# Altium footprint library Capacitors.PcbLib: 62 footprints (part 2 of 4)
Each footprint in its own frame and in the unit in brackets; x right, y up, seen from the top. Pads: shape width x height; smd on the part's side, far side on the other; paste and mask are expansions set on the pad; w line width, h text height; cw(c..) or ccw(c..) is an arc to the next point about the centre after c.
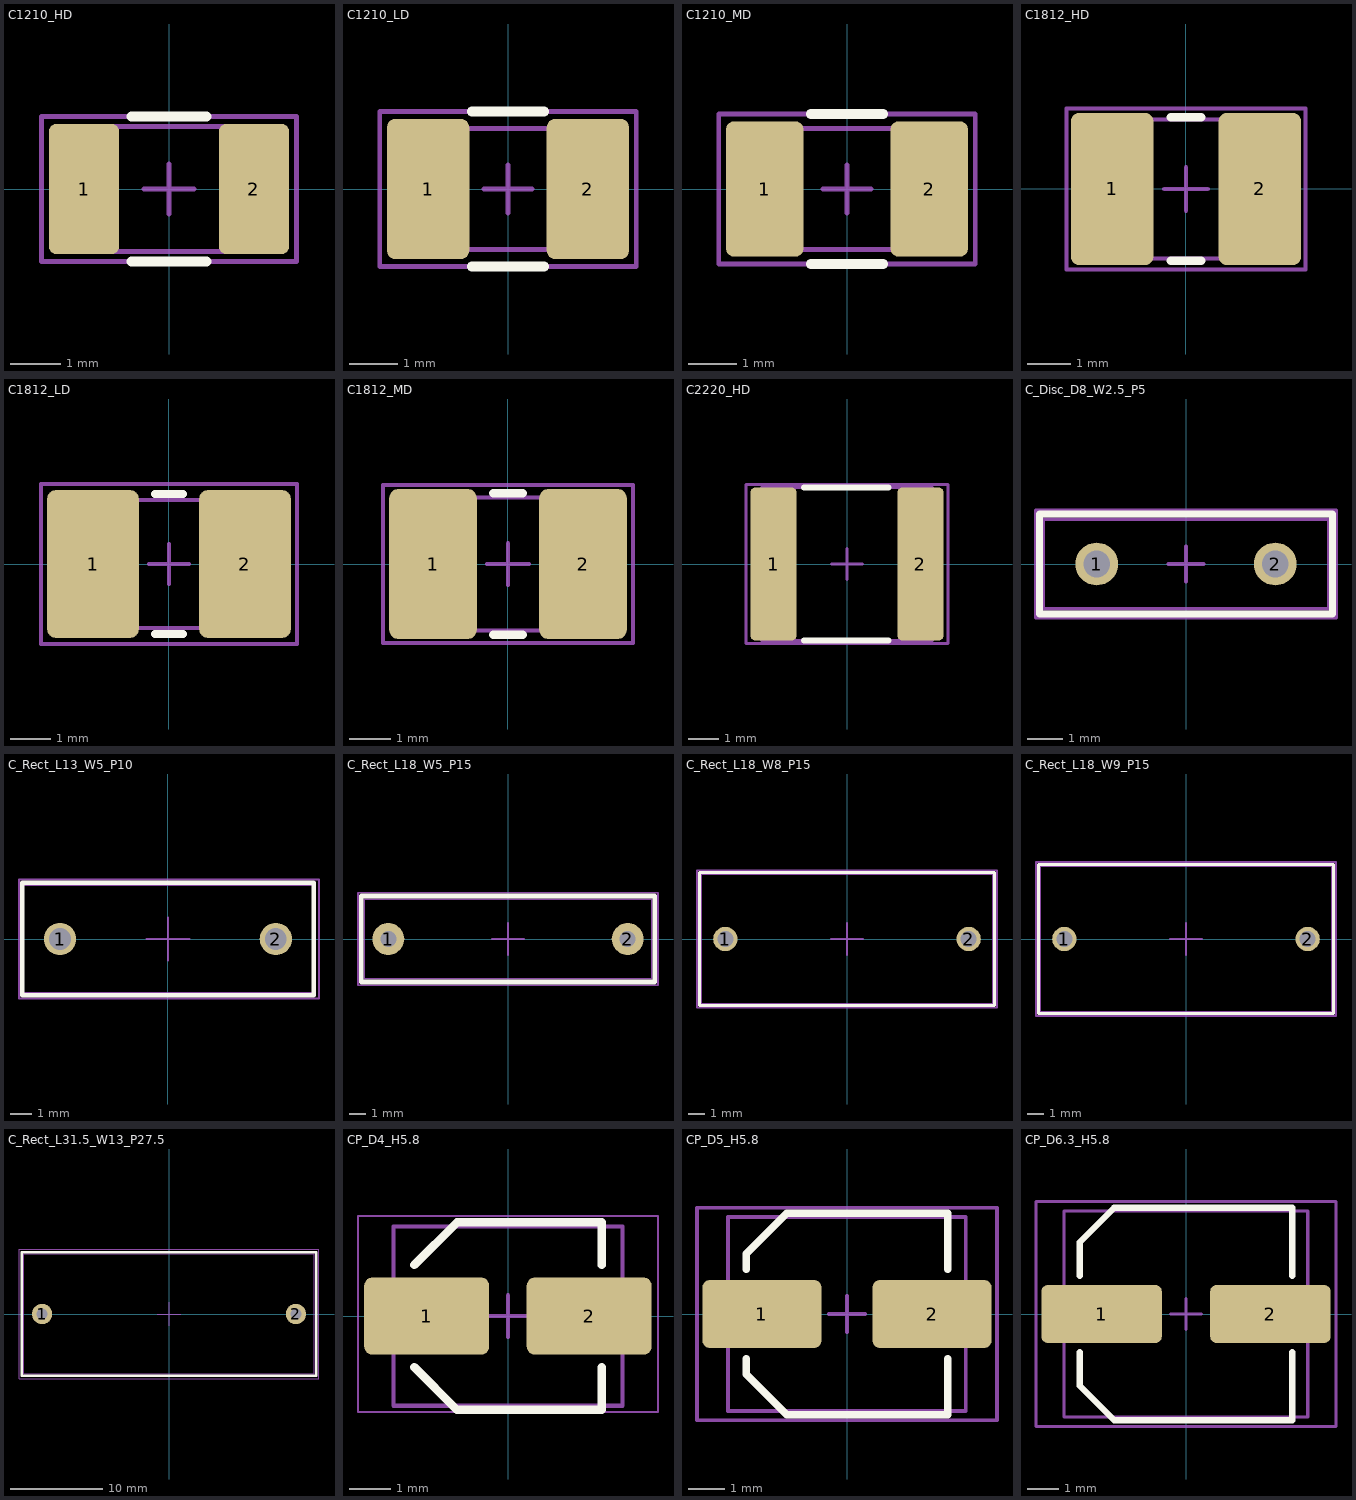
[diagram p1: the footprints below, top view; thin cyan lines are the x and y axes]

## C1210_HD [mm] "Chip Capacitor, 2-Leads, Body 3.2x2.6mm, IPC High Density"
pads (2):
  rrect20% 1.4x2.6 smd: 1(-1.7,0) 2(1.7,0)
Top Overlay:
  lines w0.2: -0.75,-1.45 0.75,-1.45 ; -0.75,1.45 0.75,1.45
Mechanical 1:
  lines w0.1: -1.6,-1.25 1.6,-1.25 1.6,1.25 -1.6,1.25 -1.6,-1.25
Mechanical 15:
  lines w0.1: -0.5,0 0.5,0 ; 0,-0.5 0,0.5 ; -2.55,-1.45 -2.55,1.45 2.55,1.45 2.55,-1.45 -2.55,-1.45
3D body "C_1210_3225Metric.step": height 2.5, standoff 0, extent -1.6,-1.25 1.6,1.25

## C1210_LD [mm] "Chip Capacitor, 2-Leads, Body 3.2x2.6mm, IPC Low Density"
pads (2):
  rrect20% 1.7x2.9 smd: 1(-1.65,0) 2(1.65,0)
Top Overlay:
  lines w0.2: -0.75,-1.6 0.75,-1.6 ; -0.75,1.6 0.75,1.6
Mechanical 1:
  lines w0.1: -1.6,-1.25 -1.6,1.25 1.6,1.25 1.6,-1.25 -1.6,-1.25
Mechanical 15:
  lines w0.1: -0.5,0 0.5,0 ; 0,-0.5 0,0.5 ; -2.65,-1.6 2.65,-1.6 2.65,1.6 -2.65,1.6 -2.65,-1.6
3D body "C_1210_3225Metric.step": height 2.5, standoff 0, extent -1.6,-1.25 1.6,1.25

## C1210_MD [mm] "Chip Capacitor, 2-Leads, Body 3.2x2.6mm, IPC Medium Density"
pads (2):
  rrect20% 1.6x2.8 smd: 1(-1.7,0) 2(1.7,0)
Top Overlay:
  lines w0.2: -0.75,-1.55 0.75,-1.55 ; -0.75,1.55 0.75,1.55
Mechanical 1:
  lines w0.1: -1.6,-1.25 -1.6,1.25 1.6,1.25 1.6,-1.25 -1.6,-1.25
Mechanical 15:
  lines w0.1: -0.5,0 0.5,0 ; 0,-0.5 0,0.5 ; -2.65,-1.55 2.65,-1.55 2.65,1.55 -2.65,1.55 -2.65,-1.55
3D body "C_1210_3225Metric.step": height 2.5, standoff 0, extent -1.6,-1.25 1.6,1.25

## C1812_HD [mm] "Chip Capacitor, 2-Leads, Body 4.5x3.2mm, IPC High Density"
height 4
pads (2):
  rrect20% 1.9x3.5 smd: 1(-1.7,0) 2(1.7,0)
Top Overlay:
  lines w0.2: -0.35,-1.65 0.35,-1.65 ; -0.35,1.65 0.35,1.65
Mechanical 1:
  lines w0.1: -2.25,-1.6 2.25,-1.6 2.25,1.6 -2.25,1.6 -2.25,-1.6
Mechanical 15:
  lines w0.1: -0.5,0 0.5,0 ; 0,-0.5 0,0.5 ; -2.75,-1.85 2.75,-1.85 2.75,1.85 -2.75,1.85 -2.75,-1.85
3D body "C_1812_4532Metric.step": height 2.5, standoff 0, extent -2.25,-1.6 2.25,1.6

## C1812_LD [mm] "Chip Capacitor, 2-Leads, Body 4.5x3.2mm, IPC Low Density"
height 4
pads (2):
  rrect20% 2.3x3.7 smd: 1(-1.9,0) 2(1.9,0)
Top Overlay:
  lines w0.2: -0.35,-1.75 0.35,-1.75 ; -0.35,1.75 0.35,1.75
Mechanical 1:
  lines w0.1: -2.25,-1.6 2.25,-1.6 2.25,1.6 -2.25,1.6 -2.25,-1.6
Mechanical 15:
  lines w0.1: -0.5,0 0.5,0 ; 0,-0.5 0,0.5 ; -3.2,-2 -3.2,2 3.2,2 3.2,-2 -3.2,-2
3D body "C_1812_4532Metric.step": height 2.5, standoff 0, extent -2.25,-1.6 2.25,1.6

## C1812_MD [mm] "Chip Capacitor, 2-Leads, Body 4.5x3.2mm, IPC Medium Density"
height 4
pads (2):
  rrect20% 2.1x3.6 smd: 1(-1.8,0) 2(1.8,0)
Top Overlay:
  lines w0.2: -0.35,-1.7 0.35,-1.7 ; -0.35,1.7 0.35,1.7
Mechanical 1:
  lines w0.1: -2.25,-1.6 2.25,-1.6 2.25,1.6 -2.25,1.6 -2.25,-1.6
Mechanical 15:
  lines w0.1: -0.5,0 0.5,0 ; 0,-0.5 0,0.5 ; -3,-1.9 3,-1.9 3,1.9 -3,1.9 -3,-1.9
3D body "C_1812_4532Metric.step": height 2.5, standoff 0, extent -2.25,-1.6 2.25,1.6

## C2220_HD [mm]
pads (2):
  rrect20% 1.5x5 smd: 1(-2.4,0) 2(2.4,0)
Top Overlay:
  lines w0.2: -1.4,-2.5 1.35,-2.5 ; -1.4,2.5 1.35,2.5
Mechanical 1:
  lines w0.1: -2.8,-2.5 -2.8,2.5 2.8,2.5 2.8,-2.5 -2.8,-2.5
Mechanical 15:
  lines w0.1: -0.5,0 0.5,0 ; 0,-0.5 0,0.5 ; -3.3,-2.6 3.3,-2.6 3.3,2.6 -3.3,2.6 -3.3,-2.6
3D body "C_2220_5650Metric.step": height 2.9, standoff 0, extent -2.8,-2.5 2.8,2.5

## C_Disc_D8_W2.5_P5 [mm]
pads (2):
  round 1.2 hole 0.75: 1(-2.5,0) 2(2.5,0)
Top Overlay:
  lines w0.2: -4.1,-1.4 -4.1,1.4 4.1,1.4 4.1,-1.4 -4.1,-1.4
Mechanical 1:
  lines w0.1: -4,-1.25 -4,1.25 3.999,1.25 3.999,-1.25 -4,-1.25
Mechanical 15:
  lines w0.1: -0.5,0 0.5,0 ; 0,-0.5 0,0.5 ; -4.2,-1.5 -4.2,1.5 4.2,1.5 4.2,-1.5 -4.2,-1.5
3D body "C_Disc_D8.0mm_W2.5mm_P5.00mm.step": height 8.1, standoff -2, extent -4,-1.25 3.999,1.25

## C_Rect_L13_W5_P10 [mm]
pads (2):
  round 1.5 hole 1 unplated: 1(-5,0) 2(5,0)
Top Overlay:
  lines w0.2: -6.75,-2.6 -6.75,2.6 6.75,2.6 6.75,-2.6 -6.75,-2.6
Mechanical 1:
  lines w0.1: -6.75,-2.5 6.75,-2.5 6.75,2.5 -6.75,2.5 -6.75,-2.5
Mechanical 15:
  lines w0.1: -1,0 1,0 ; 0,-1 0,1 ; -6.9,-2.75 -6.9,2.75 7,2.75 7,-2.75 -6.9,-2.75
3D body "C_Rect_L13.5mm_W5.0mm_P10.00mm_FKS3_FKP3_MKS4.step": height 10.1, standoff -1.8, extent -6.75,-2.5 6.75,2.5

## C_Rect_L18_W5_P15 [mm]
pads (2):
  round 2 hole 1: 1(-7.5,0) 2(7.5,0)
Top Overlay:
  lines w0.3: -9.2,-2.7 -9.2,2.7 9.2,2.7 9.2,-2.7 -9.2,-2.7
Mechanical 1:
  lines w0.1: -9,-2.5 -9,2.5 9,2.5 9,-2.5 -9,-2.5
Mechanical 15:
  lines w0.1: -1,0 1,0 ; 0,-1 0,1 ; -9.4,-2.9 -9.4,2.9 9.4,2.9 9.4,-2.9 -9.4,-2.9
3D body "C_Rect_L18.0mm_W5.0mm_P15.00mm_FKS3_FKP3.step": height 15.1, standoff -1.8, extent -9,-2.5 9,2.5

## C_Rect_L18_W8_P15 [mm]
pads (2):
  round 1.5 hole 1 unplated: 1(-7.5,0) 2(7.5,0)
Top Overlay:
  lines w0.2: -9.1,-4.1 -9.1,4.1 9.1,4.1 9.1,-4.1 -9.1,-4.1
Mechanical 1:
  lines w0.1: -9,-4 9,-4 ; -9,-4 -9,-4 ; -9,-4 -9,4 9,4 9,-4 ; 9,-4 9,-4
Mechanical 15:
  lines w0.1: -1,0 1,0 ; 0,-1 0,1 ; -9.25,-4.25 9.25,-4.25 9.25,4.25 -9.25,4.25 -9.25,-4.25
3D body "C_Rect_L18.0mm_W8.0mm_P15.00mm_FKS3_FKP3.step": height 15, standoff -1.9, extent -9,-4 9,4

## C_Rect_L18_W9_P15 [mm]
pads (2):
  round 1.5 hole 1 unplated: 1(-7.5,0) 2(7.5,0)
Top Overlay:
  lines w0.2: -9.1,-4.6 -9.1,4.6 9.1,4.6 9.1,-4.6 -9.1,-4.6
Mechanical 1:
  lines w0.1: -9,-4.5 9,-4.5 9,4.5 -9,4.5 -9,-4.5
Mechanical 15:
  lines w0.1: -1,0 1,0 ; 0,-1 0,1 ; -9.25,-4.75 -9.25,4.75 9.25,4.75 9.25,-4.75 -9.25,-4.75
3D body "C_Rect_L18.0mm_W9.0mm_P15.00mm_FKS3_FKP3.step": height 15, standoff -1.9, extent -9,-4.5 9,4.5

## C_Rect_L31.5_W13_P27.5 [mm]
pads (2):
  round 2.2 hole 1.2: 1(-13.75,0) 2(13.75,0)
Top Overlay:
  lines w0.3: -15.95,-6.7 15.95,-6.7 15.95,6.7 -15.95,6.7 -15.95,-6.7
Mechanical 1:
  lines w0.1: -15.75,-6.5 -15.75,6.5 15.75,6.5 15.75,-6.5 -15.75,-6.5
Mechanical 15:
  lines w0.1: -1.25,0 1.25,0 ; 0,-1.25 0,1.25 ; -16.25,-7 -16.25,7 16.25,7 16.25,-7 -16.25,-7
3D body "C_Rect_L31.5mm_W13.0mm_P27.50mm_MKS4.step": height 26.1, standoff -1.8, extent -15.75,-6.5 15.75,6.5

## CP_D4_H5.8 [mm]
height 5.8
pads (2):
  rrect20% 3x1.85 smd: 1(-1.95,0) 2(1.95,0)
Top Overlay:
  lines w0.2: -2.25,-1.225 -1.225,-2.25 2.25,-2.25 2.25,-1.225 ; -2.25,1.225 -1.225,2.25 2.25,2.25 2.25,1.225
Mechanical 1:
  lines w0.1: -2.75,-2.15 2.75,-2.15 2.75,2.15 -2.75,2.15 -2.75,-2.15
Mechanical 15:
  lines w0.05: -3.6,-2.3 3.6,-2.3 3.6,2.4 -3.6,2.4 -3.6,-2.3
  lines w0.1: -0.5,0 0.5,0 ; 0,-0.5 0,0.5
3D body "CP_Elec_4x5.8.step": height 5.8, standoff 0, extent -2.75,-2.15 2.75,2.15

## CP_D5_H5.8 [mm]
height 5.8
pads (2):
  rrect20% 3.25x1.85 smd: 1(-2.325,0) 2(2.325,0)
Top Overlay:
  lines w0.2: -2.75,-1.225 -2.75,-1.65 -1.65,-2.75 2.75,-2.75 2.75,-1.225 ; -2.75,1.225 -2.75,1.65 -1.65,2.75 2.75,2.75 2.75,1.225
Mechanical 1:
  lines w0.1: -3.253,-2.651 3.247,-2.651 3.247,2.649 -3.253,2.649 -3.253,-2.651
Mechanical 15:
  lines w0.1: -0.5,0 0.5,0 ; 0,-0.5 0,0.5 ; -4.1,-2.9 4.1,-2.9 4.1,2.9 -4.1,2.9 -4.1,-2.9
3D body "CP_Elec_5x5.8.step": height 5.8, standoff 0, extent -3.253,-2.651 3.247,2.649

## CP_D6.3_H5.8 [mm]
height 5.8
pads (2):
  rrect20% 3.85x1.85 smd: 1(-2.7,0) 2(2.7,0)
Top Overlay:
  lines w0.2: -3.4,-1.225 -3.4,-2.3 -2.3,-3.4 3.4,-3.4 3.4,-1.225 ; -3.4,1.225 -3.4,2.3 -2.3,3.4 3.4,3.4 3.4,1.225
Mechanical 1:
  lines w0.1: -3.903,-3.301 3.896,-3.301 3.896,3.299 -3.903,3.299 -3.903,-3.301
Mechanical 15:
  lines w0.1: -0.5,0 0.5,0 ; 0,-0.5 0,0.5 ; -4.8,-3.6 4.8,-3.6 4.8,3.6 -4.8,3.6 -4.8,-3.6
3D body "CP_Elec_6.3x5.8.step": height 5.8, standoff 0, extent -3.903,-3.301 3.896,3.299